# Altium footprint library PCB3.PcbLib: 8 footprints
Each footprint in its own frame and in the unit in brackets; x right, y up, seen from the top. Pads: shape width x height; smd on the part's side, far side on the other; paste and mask are expansions set on the pad; w line width, h text height; cw(c..) or ccw(c..) is an arc to the next point about the centre after c.
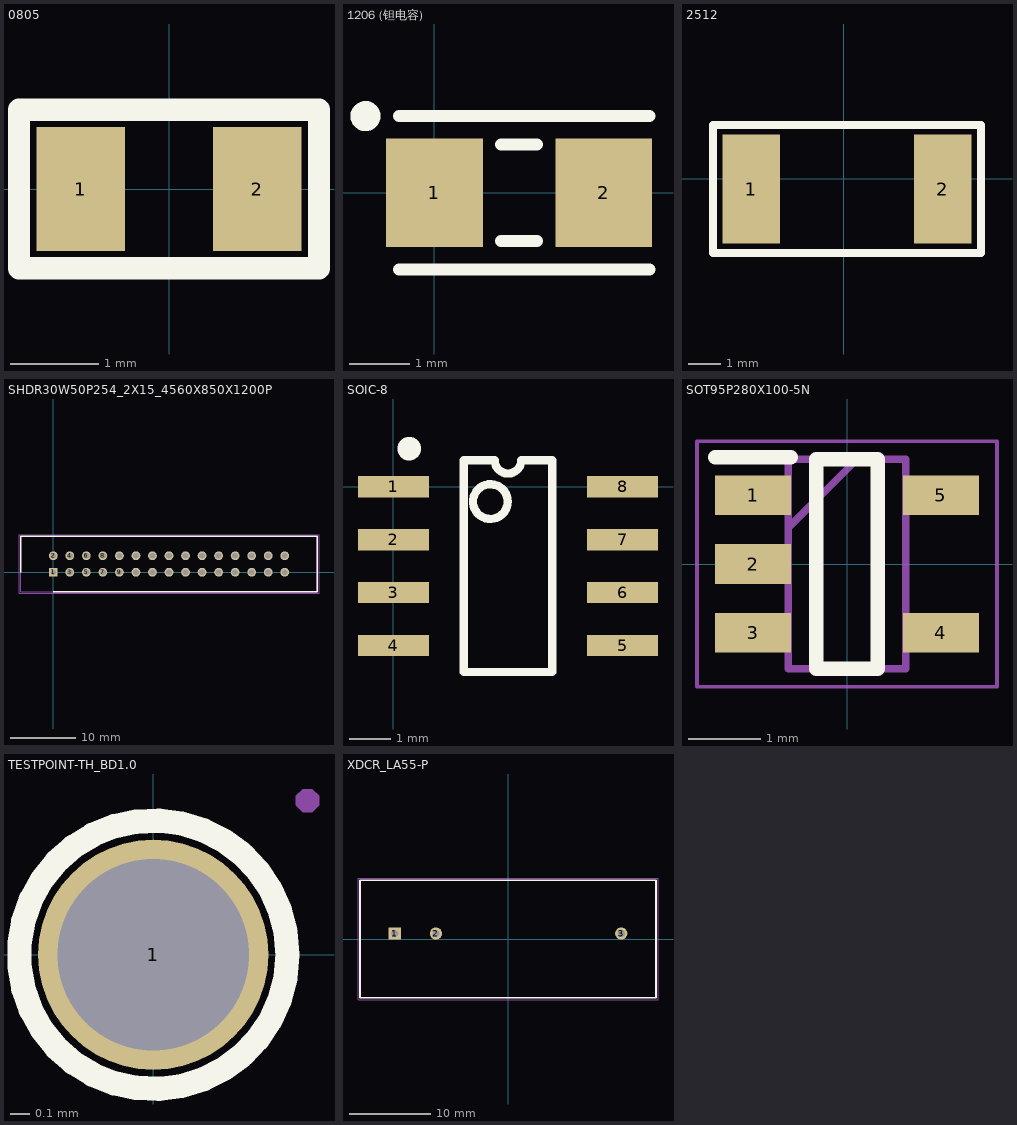
[diagram p0: the footprints below, top view; thin cyan lines are the x and y axes]

## 0805 [mm]
pads (2):
  rect 1x1.4 smd: 1(-1,0) 2(1,0)
Top Overlay:
  lines w0.254: -1.7,-0.9 -1.7,0 -1.7,0.9 1.7,0.9 1.7,-0.9 -1.7,-0.9

## 1206 (钽电容) [mm]
pads (2):
  rect 1.6x1.8 smd: 1(0,0) 2(2.8,0)
Top Overlay:
  circle w0.25: c-1.141,1.27 r0.125
  lines w0.2: -0.585,-1.27 3.556,-1.27 ; -0.585,1.27 3.556,1.27 ; 1.1,-0.8 1.7,-0.8 ; 1.1,0.8 1.7,0.8

## 2512 [mm]
pads (2):
  rect 1.8x3.4 smd: 1(-2.903,-0.324) 2(3.097,-0.324)
Top Overlay:
  lines w0.254: -4.103,-2.324 -4.103,-0.324 -4.103,1.676 4.297,1.676 4.297,-2.324 -4.103,-2.324

## SHDR30W50P254_2X15_4560X850X1200P [mm]
pads (30):
  rect 1.35x1.35 hole 0.9: 1(0,0)
  round 1.35 hole 0.9: 2(0,2.54) 3(2.54,0) 4(2.54,2.54) 5(5.08,0) 6(5.08,2.54) 7(7.62,0) 8(7.62,2.54) 9(10.16,0) 10(10.16,2.54) 11(12.7,0) 12(12.7,2.54) 13(15.24,0) 14(15.24,2.54) 15(17.78,0) 16(17.78,2.54) 17(20.32,0) 18(20.32,2.54) 19(22.86,0) 20(22.86,2.54) 21(25.4,0) 22(25.4,2.54) 23(27.94,0) 24(27.94,2.54) 25(30.48,0) 26(30.48,2.54) 27(33.02,0) 28(33.02,2.54) 29(35.56,0) 30(35.56,2.54)
Top Overlay:
  lines w0.2: -5.02,0 -5.02,5.52 40.58,5.52 40.58,-2.98 0,-2.98
Mechanical 13:
  lines w0.1: -5.02,-2.98 40.58,-2.98 40.58,5.52 -5.02,5.52 -5.02,-2.98
Mechanical 15:
  lines w0.05: -5.27,-3.23 40.83,-3.23 40.83,5.77 -5.27,5.77 -5.27,-3.23
3D body "HIF3FC-30PA-2.54DSA_71_.stp": height 12, standoff -2.8, extent -5.02,-2.98 40.58,5.52

## SOIC-8 [mm]
pads (8):
  rect 1.7x0.51 smd: 1(0,0) 2(0,-1.27) 3(0,-2.54) 4(0,-3.81) 5(5.5,-3.81) 6(5.5,-2.54) 7(5.5,-1.27) 8(5.5,0)
Top Overlay:
  circle w0.2: c2.327,-0.356 r0.417
  circle w0.508: c0.378,0.914 r0.028
  lines w0.2: 1.685,-4.445 3.815,-4.445 3.815,0.635 3.067,0.635 cw(c2.75,0.635) 2.432,0.635 1.685,0.635 1.685,-0.635 1.685,-3.175 1.685,-4.445

## SOT95P280X100-5N [mm]
pads (5):
  rect 1.05x0.55 smd: 1(-1.3,0.95) 2(-1.3,0) 3(-1.3,-0.95) 4(1.3,-0.95) 5(1.3,0.95)
Top Overlay:
  lines w0.2: -1.825,1.475 -0.775,1.475 ; -0.425,-1.45 0.425,-1.45 0.425,1.45 -0.425,1.45 -0.425,-1.45
Mechanical 13:
  lines w0.1: -0.812,0.5 0.138,1.45 ; -0.812,-1.45 0.812,-1.45 0.812,1.45 -0.812,1.45 -0.812,-1.45
Mechanical 15:
  lines w0.05: -2.075,-1.7 2.075,-1.7 2.075,1.7 -2.075,1.7 -2.075,-1.7
3D body "LTC6240HVCS5#TRMPBF.stp": height 1, standoff 0, extent -1.4,-1.45 1.4,1.45

## TESTPOINT-TH_BD1.0 [mm]
pads (1):
  round 1.2 hole 1 paste+0 mask+0.05: 1(0,0)
Top Overlay:
  circle w0.127: c0,0 r0.7
Mechanical 15:
  region: 0.864,0.804 0.864,0.829 0.829,0.864 0.78,0.864 0.744,0.829 0.744,0.804 0.744,0.78 0.78,0.744 0.829,0.744 0.864,0.78 0.864,0.804

## XDCR_LA55-P [mm]
pads (3):
  rect 1.5x1.5 hole 0.9: 1(-13.97,0.675)
  round 1.5 hole 0.9: 2(-8.89,0.675) 3(13.97,0.675)
Top Overlay:
  lines w0.2: -18.25,-7.225 18.25,-7.225 18.25,7.225 -18.25,7.225 -18.25,-7.225
Mechanical 15:
  lines w0.05: -18.5,-7.5 18.5,-7.5 18.5,7.5 -18.5,7.5 -18.5,-7.5